# EAGLE library part W2L16D105MAT1A (library (manufact)-capacitors-AVX-element14)
CAPACITOR ARRAY,0508
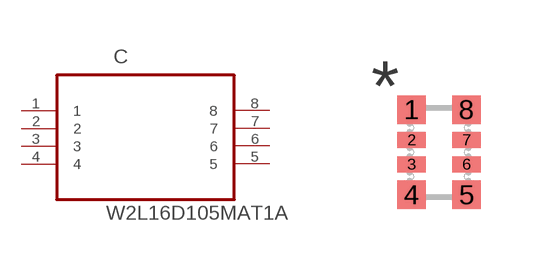
[diagram p0: symbol with the pads of CAPCAF50PX203X127X55-08; footprint CAPCAF50PX203X127X55-08]

Designator prefix C

## W2L16D105MAT1A (MPN: W2L16D105MAT1A; OC_FARNELL: -; OC_NEWARK: 12N3201; SUPPLIER: AVX; TOLERANCE: ±20%; VALUE: 1.0µF; VOLTAGE: 6.3V)  [CAPCAF50PX203X127X55-08]
1  1  pas
2  2  pas
3  3  pas
4  4  pas
5  5  pas
6  6  pas
7  7  pas
8  8  pas

## Footprint CAPCAF50PX203X127X55-08 (pad centres in mm)
smd 0.711 x 0.711: 1 -0.686,1.067; 4 -0.686,-1.067; 5 0.686,-1.067; 8 0.686,1.067
smd 0.711 x 0.406: 2 -0.686,0.305; 3 -0.686,-0.305; 6 0.686,-0.305; 7 0.686,0.305